# Altium footprint library 004-H-01 SD data logger.PcbLib: 27 footprints (part 1 of 2)
Each footprint in its own frame and in the unit in brackets; x right, y up, seen from the top. Pads: shape width x height; smd on the part's side, far side on the other; paste and mask are expansions set on the pad; w line width, h text height; cw(c..) or ccw(c..) is an arc to the next point about the centre after c.
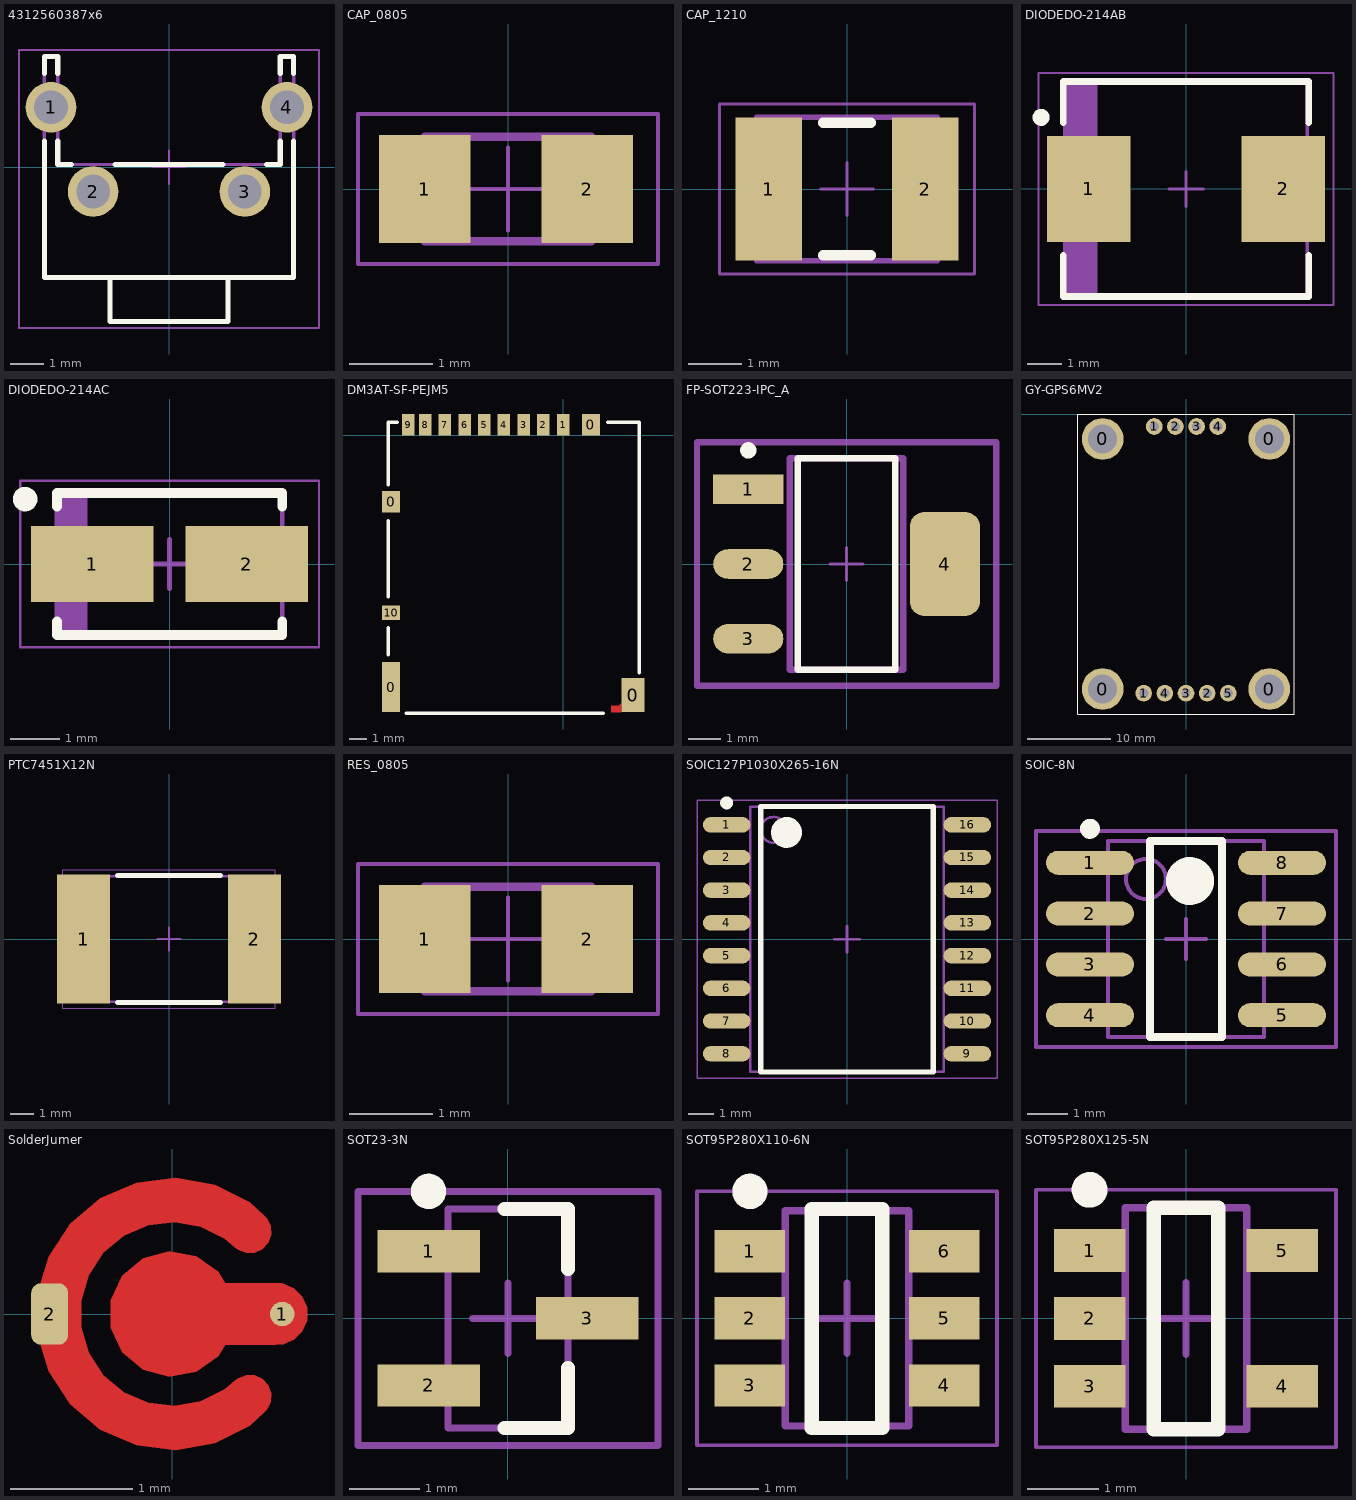
[diagram p0: the footprints below, top view; thin cyan lines are the x and y axes]

## 4312560387x6 [mm] "6x6mm right angle Tact Switch with ground terminal, THT version"
height 7.2
pads (4):
  round 1.5 hole 1: 1(-3.5,1.775) 2(-2.25,-0.725) 3(2.25,-0.725) 4(3.5,1.775)
Top Overlay:
  lines w0.15: -3.7,0.775 -3.7,-3.275 3.7,-3.275 3.7,0.775 ; -3.7,2.775 -3.7,3.275 -3.3,3.275 -3.3,2.775 ; -3.3,0.775 -3.3,0.075 -2.9,0.075 ; -1.75,-3.275 -1.75,-4.575 1.75,-4.575 1.75,-3.275 ; -1.6,0.075 1.6,0.075 ; 2.9,0.075 3.3,0.075 3.3,0.775 ; 3.3,2.775 3.3,3.275 3.7,3.275 3.7,2.775
Mechanical 13:
  lines w0.1: -1.75,-3.275 -1.75,-4.575 1.75,-4.575 1.75,-3.275 ; -3.7,-3.275 -3.7,3.275 -3.3,3.275 -3.3,0.075 3.3,0.075 3.3,3.275 3.7,3.275 3.7,-3.275 -3.7,-3.275
Mechanical 15:
  lines w0.05: -0.5,0 0.5,0 ; 0,-0.5 0,0.5 ; -4.45,-4.775 -4.45,3.475 4.45,3.475 4.45,-4.775 -4.45,-4.775
3D body "4312560387x6.stp": height 7.25, standoff -3.45, extent -4.2,-4.575 4.2,3.275

## CAP_0805 [mm] "Ceramic Capacitor, SMT, body size 2x1.25mm"
height 0.9
pads (2):
  rect 1.1x1.3 smd: 1(-1,0) 2(0.95,0)
Mechanical 13:
  lines w0.1: -1,-0.625 1,-0.625 1,0.625 -1,0.625 -1,-0.625
Mechanical 15:
  lines w0.05: -0.5,0 0.5,0 ; 0,-0.5 0,0.5 ; -1.8,-0.9 -1.8,0.9 1.8,0.9 1.8,-0.9 -1.8,-0.9
Fab Notes:
  text ".Designator" at -1.6,-0.5 h0.3
3D body "2x1.25x0.8x0.5.stp": height 0.8, standoff 0, extent -1,-0.625 1,0.625

## CAP_1210 [mm] "Ceramic Capacitor, SMT, body size 3.2x2.5mm"
height 1.8
pads (2):
  rect 1.25x2.7 smd: 1(-1.475,0) 2(1.475,0)
Top Overlay:
  lines w0.2: -0.45,-1.25 0.45,-1.25 ; -0.45,1.25 0.45,1.25
Mechanical 13:
  lines w0.1: -1.7,-1.35 -1.7,1.35 1.7,1.35 1.7,-1.35 -1.7,-1.35
Mechanical 15:
  lines w0.05: -0.5,0 0.5,0 ; 0,-0.5 0,0.5 ; -2.4,-1.6 -2.4,1.6 2.4,1.6 2.4,-1.6 -2.4,-1.6
Fab Notes:
  text ".Designator" at -1.6,-0.5 h0.3
3D body "3.2x2.5x1.6x0.75.stp": height 1.6, standoff 0, extent -1.6,-1.25 1.6,1.25

## DIODEDO-214AB [mm] "Molded Diode, 2-Leads, Body 6.86x5.91mm, IPC Medium Density"
height 2.5
pads (2):
  rect 2.45x3.1 smd: 1(-2.85,0) 2(2.85,0)
Top Overlay:
  circle w0.25: c-4.25,2.1 r0.125
  lines w0.2: -3.6,-1.95 -3.6,-3.15 3.6,-3.15 3.6,-1.95 ; -3.6,1.95 -3.6,3.15 3.6,3.15 3.6,1.95
Assembly Top:
  rectangle: -3.555,-3.11 -2.599,3.11
  lines w0.1: -3.555,-3.11 3.555,-3.11 3.555,3.11 -3.555,3.11 -3.555,-3.11
Courtyard Top:
  lines w0.05: -4.325,-3.4 4.325,-3.4 4.325,3.4 -4.325,3.4 -4.325,-3.4
  lines w0.1: -0.5,0 0.5,0 ; 0,-0.5 0,0.5
Fab Notes:
  text ".Designator" at -1.6,-0.5 h0.3
3D body "DIODEDO-214ABb.step": height 2.5, standoff 0, extent -3.775,-3.11 3.775,3.11

## DIODEDO-214AC [mm] "Molded Diode, 2-Leads, Body 4.30x2.63mm, IPC Medium Density"
height 2.62
pads (2):
  rect 2.5x1.55 smd: 1(-1.575,0) 2(1.575,0)
Top Overlay:
  circle w0.25: c-2.95,1.325 r0.125
  lines w0.2: -2.3,-1.175 -2.3,-1.45 2.3,-1.45 2.3,-1.175 ; -2.3,1.175 -2.3,1.45 2.3,1.45 2.3,1.175
Assembly Top:
  rectangle: -2.3,-1.45 -1.681,1.45
  lines w0.1: -2.3,-1.45 2.3,-1.45 2.3,1.45 -2.3,1.45 -2.3,-1.45
Courtyard Top:
  lines w0.05: -3.05,-1.7 3.05,-1.7 3.05,1.7 -3.05,1.7 -3.05,-1.7
  lines w0.1: -0.5,0 0.5,0 ; 0,-0.5 0,0.5
Fab Notes:
  text ".Designator" at -1.6,-0.5 h0.3
3D body "DIODEDO-214AC.step": height 2.62, standoff 0, extent -2.52,-1.45 2.52,1.45

## DM3AT-SF-PEJM5 [mm] "Memory Socket Micro SD card"
pads (14):
  rect 1x2.8 smd: 0(-9.6,-14.05)
  rect 1x1.2 smd: 0(-9.6,-3.7) 0(1.55,0.6)
  rect 1.3x1.9 smd: 0(3.9,-14.5)
  rect 0.7x1.2 smd: 1(0,0.6) 2(-1.1,0.6) 3(-2.2,0.6) 4(-3.3,0.6) 5(-4.4,0.6) 6(-5.5,0.6) 7(-6.6,0.6) 8(-7.7,0.6) 9(-8.65,0.6)
  rect 1x0.8 smd: 10(-9.6,-9.9)
Top Layer:
  region: 3.25,-15.45 2.7,-15.45 2.7,-15.1 3.1,-15.1 3.25,-14.95
Top Overlay:
  lines w0.2: -9.75,-12.25 -9.75,-10.75 ; -9.75,-9 -9.75,-4.75 ; -9.75,-2.75 -9.75,0.75 -9.25,0.75 ; -8.75,-15.5 2.25,-15.5 ; 2.5,0.75 4.25,0.75 4.25,-13.25
Top Paste:
  region: 3.25,-15.45 2.7,-15.45 2.7,-15.1 3.1,-15.1 3.25,-14.95
Top Solder:
  region: 3.15,-15.55 2.6,-15.55 2.6,-15 3,-15 3.15,-14.85
3D body "DM3AT-SF-PEJM5.stp": height 1.68, standoff 0, extent -9.675,-15.4 4.175,0.75

## FP-SOT223-IPC_A [mm]
pads (4):
  rect 2.16x0.912 smd paste+0 mask+0: 1(-3.026,2.3)
  rrect100% 2.16x0.912 smd paste+0 mask+0: 2(-3.026,0) 3(-3.026,-2.3)
  rrect42% 2.16x3.212 smd paste+0 mask+0: 4(3.026,0)
Top Overlay:
  circle w0.25: c-3.026,3.5 r0.125
  lines w0.2: -1.5,-3.25 -1.5,3.25 1.5,3.25 1.5,-3.25 -1.5,-3.25
Courtyard Bottom:
  lines w0.2: -4.606,-3.75 -4.606,3.75 4.606,3.75 4.606,-3.75 -4.606,-3.75
  text ".Designator" at 0,0.188 h1
Mechanical 13:
  lines w0.2: -1.75,-3.25 -1.75,3.25 1.75,3.25 1.75,-3.25 -1.75,-3.25
Mechanical 15:
  lines w0.2: -4.606,-3.75 -4.606,3.75 4.606,3.75 4.606,-3.75 -4.606,-3.75
Mechanical 16:
  lines w0.1: -0.5,0 0.5,0 ; 0,-0.5 0,0.5
3D body "Trans_Diodes_Inc_FZT849TA_eec.STEP": height 0.25, standoff 0, extent -4.606,-3.75 4.606,3.75

## GY-GPS6MV2 [mm] "GPS module"
pads (13):
  round 5 hole 3.5: 0(-10,-33) 0(-10,-3) 0(10,-33) 0(10,-3)
  round 2 hole 1.1: 1(-5.08,-33.5) 1(-3.81,-1.5) 2(-1.27,-1.5) 2(2.54,-33.5) 3(0,-33.5) 3(1.27,-1.5) 4(-2.54,-33.5) 4(3.81,-1.5) 5(5.08,-33.5)
Top Overlay:
  lines w0.127: -13,-36 13,-36 13,0 -13,0 -13,-36

## PTC7451X12N [mm] "Chip PTC, 2-Leads, Body 7.36x5.12mm, IPC Medium Density"
height 1.15
pads (2):
  rect 2.3x5.6 smd: 1(-3.7,0) 2(3.7,0)
Top Overlay:
  lines w0.2: -2.25,-2.75 2.25,-2.75 ; -2.25,2.75 2.25,2.75
Assembly Top:
  lines w0.1: -3.99,-2.72 3.99,-2.72 3.99,2.72 -3.99,2.72 -3.99,-2.72
Courtyard Top:
  lines w0.05: -4.6,-3 4.6,-3 4.6,3 -4.6,3 -4.6,-3
  lines w0.1: -0.5,0 0.5,0 ; 0,-0.5 0,0.5
Fab Notes:
  text ".Designator" at -1.6,-0.5 h0.3
3D body "RESC7451X12N.step": height 1.15, standoff 0, extent -3.99,-2.72 3.99,2.72

## RES_0805 [mm] "Thick Film Resistors, SMT, body size 2x1.25mm"
height 0.6
pads (2):
  rect 1.1x1.3 smd: 1(-1,0) 2(0.95,0)
Mechanical 13:
  lines w0.1: -1,-0.625 1,-0.625 1,0.625 -1,0.625 -1,-0.625
Mechanical 15:
  lines w0.05: -0.5,0 0.5,0 ; 0,-0.5 0,0.5 ; -1.8,-0.9 -1.8,0.9 1.8,0.9 1.8,-0.9 -1.8,-0.9
Fab Notes:
  text ".Designator" at -1.6,-0.5 h0.3
3D body "WRIS-KSKE_0805.stp": height 0.6, standoff 0, extent -1,-0.625 1,0.625

## SOIC127P1030X265-16N [mm] "SOIC, 16-Leads, Body 10.30x7.50mm, Pitch 1.27mm, IPC Medium Density"
height 2.65
pads (16):
  oval 1.85x0.6 smd: 1(-4.675,4.445) 2(-4.675,3.175) 3(-4.675,1.905) 4(-4.675,0.635) 5(-4.675,-0.635) 6(-4.675,-1.905) 7(-4.675,-3.175) 8(-4.675,-4.445) 9(4.675,-4.445) 10(4.675,-3.175) 11(4.675,-1.905) 12(4.675,-0.635) 13(4.675,0.635) 14(4.675,1.905) 15(4.675,3.175) 16(4.675,4.445)
Top Overlay:
  circle w0.6: c-2.35,4.15 r0.3
  circle w0.25: c-4.675,5.295 r0.125
  lines w0.2: -3.35,-5.15 3.35,-5.15 3.35,5.15 -3.35,5.15 -3.35,-5.15
Assembly Top:
  circle w0.1: c-2.85,4.25 r0.5
  lines w0.1: -3.75,-5.15 3.75,-5.15 3.75,5.15 -3.75,5.15 -3.75,-5.15
Courtyard Top:
  lines w0.05: -5.825,-5.4 5.825,-5.4 5.825,5.4 -5.825,5.4 -5.825,-5.4
  lines w0.1: -0.5,0 0.5,0 ; 0,-0.5 0,0.5
3D body "SOIC127P1030X265-16N.step": height 2.65, standoff 0, extent -5.15,-5.15 5.15,5.15

## SOIC-8N [mm] "SOIC, 8-Leads, Body 4.9x3.9mm (max), Pitch 1.27mm, IPC Medium Density"
height 1.75
pads (8):
  oval 2.2x0.6 smd: 1(-2.4,1.905) 2(-2.4,0.635) 3(-2.4,-0.635) 4(-2.4,-1.905) 5(2.4,-1.905) 6(2.4,-0.635) 7(2.4,0.635) 8(2.4,1.905)
Top Overlay:
  circle w0.6: c0.1,1.45 r0.3
  circle w0.25: c-2.4,2.755 r0.125
  lines w0.2: -0.9,-2.45 0.9,-2.45 0.9,2.45 -0.9,2.45 -0.9,-2.45
Mechanical 13:
  circle w0.1: c-1,1.5 r0.5
  lines w0.1: -1.95,-2.45 1.95,-2.45 1.95,2.45 -1.95,2.45 -1.95,-2.45
Mechanical 15:
  lines w0.1: -0.5,0 0.5,0 ; 0,-0.5 0,0.5 ; -3.75,-2.7 3.75,-2.7 3.75,2.7 -3.75,2.7 -3.75,-2.7
Fab Notes:
  text ".Designator" at -1.6,-0.5 h0.3
3D body: height 1.75, standoff 0.1, extent -1.95,-2.45 1.95,2.45
3D body "SOIC-8.step": height 1.75, standoff 0, extent -3,-2.45 3,2.45

## SolderJumer [mm] "Solder jumper open"
pads (2):
  round 0.2 smd paste+0 mask+0: 1(0.9,0)
  rrect50% 0.3x0.5 smd paste+0 mask+0: 2(-1,0)
Top Layer:
  region: 0.433,-0.25 0.378,-0.346 0.196,-0.473 -0.022,-0.512 -0.236,-0.454 -0.406,-0.312 -0.5,-0.111 -0.5,0.111 -0.406,0.312 -0.236,0.454 -0.022,0.512 0.196,0.473 0.378,0.346 0.433,0.25 0.852,0.25 0.902,0.25 0.994,0.212 1.064,0.142 1.102,0.05 1.102,-0.05 1.064,-0.142 0.994,-0.212 0.902,-0.25 0.852,-0.25
  region: 0.752,-0.803 0.635,-0.913 0.347,-1.056 0.03,-1.111 -0.29,-1.073 -0.585,-0.945 -0.831,-0.738 -1.008,-0.469 -1.1,-0.161 -1.1,0.161 -1.008,0.469 -0.831,0.738 -0.585,0.945 -0.29,1.073 0.03,1.111 0.347,1.056 0.635,0.913 0.752,0.803 0.777,0.779 0.806,0.716 0.809,0.646 0.784,0.581 0.737,0.53 0.674,0.501 0.604,0.499 0.539,0.523 0.513,0.547 0.429,0.615 0.235,0.712 0.021,0.75 -0.195,0.724 -0.394,0.638 -0.561,0.498 -0.68,0.317 -0.742,0.109 -0.742,-0.109 -0.68,-0.317 -0.561,-0.498 -0.394,-0.638 -0.195,-0.724 0.021,-0.75 0.235,-0.712 0.429,-0.615 0.513,-0.547 0.539,-0.523 0.604,-0.499 0.674,-0.501 0.737,-0.53 0.784,-0.581 0.809,-0.646 0.806,-0.716 0.777,-0.779
Top Solder:
  region: 0,-1.2 -0.118,-1.2 -0.35,-1.154 -0.568,-1.063 -0.765,-0.932 -0.932,-0.765 -1.063,-0.568 -1.154,-0.35 -1.2,-0.118 -1.2,0 -1.2,0.118 -1.154,0.35 -1.063,0.568 -0.932,0.765 -0.765,0.932 -0.568,1.063 -0.35,1.154 -0.118,1.2 0,1.2 0.118,1.2 0.35,1.154 0.568,1.063 0.765,0.932 0.932,0.765 1.063,0.568 1.154,0.35 1.2,0.118 1.2,0 1.2,-0.118 1.154,-0.35 1.063,-0.568 0.932,-0.765 0.765,-0.932 0.568,-1.063 0.35,-1.154 0.118,-1.2

## SOT23-3N [mm] "SOT23, 3-Leads, Body 3.1x3.0mm (max), Pitch 0.95mm, IPC Medium Density"
height 1.45
pads (3):
  rect 1.45x0.6 smd: 1(-1.125,0.95) 2(-1.125,-0.95) 3(1.125,0)
Top Overlay:
  circle w0.25: c-1.125,1.8 r0.125
  lines w0.2: -0.05,-1.55 0.85,-1.55 0.85,-0.7 ; -0.05,1.55 0.85,1.55 0.85,0.7
Mechanical 13:
  lines w0.1: -0.85,-1.55 -0.85,1.55 0.85,1.55 0.85,-1.55 -0.85,-1.55
Mechanical 15:
  lines w0.1: -0.5,0 0.5,0 ; 0,-0.5 0,0.5 ; -2.125,-1.8 -2.125,1.8 2.125,1.8 2.125,-1.8 -2.125,-1.8
Fab Notes:
  text ".Designator" at -1.6,-0.5 h0.3
3D body: height 1.45, standoff 0.1, extent -0.85,-1.55 0.85,1.55
3D body "CircuitWorks-SOT-23.step": height 1.05, standoff -0.05, extent -1.25,-1.5 1.25,1.5

## SOT95P280X110-6N [mm] "SOT23, 6-Leads, Body 2.90x2.80mm, Pitch 0.95mm, IPC Medium Density"
height 1.1
pads (6):
  rect 1x0.6 smd: 1(-1.375,0.95) 2(-1.375,0) 3(-1.375,-0.95) 4(1.375,-0.95) 5(1.375,0) 6(1.375,0.95)
Top Overlay:
  circle w0.25: c-1.375,1.8 r0.125
  lines w0.2: -0.5,-1.55 0.5,-1.55 0.5,1.55 -0.5,1.55 -0.5,-1.55
Assembly Top:
  lines w0.1: -0.875,-1.525 -0.875,1.525 0.875,1.525 0.875,-1.525 -0.875,-1.525
Courtyard Top:
  lines w0.05: -2.125,-1.8 -2.125,1.8 2.125,1.8 2.125,-1.8 -2.125,-1.8
  lines w0.1: -0.5,0 0.5,0 ; 0,-0.5 0,0.5
Fab Notes:
  text ".Designator" at -1.6,-0.5 h0.3
3D body: height 1.1, standoff 0.05, extent -0.875,-1.525 0.875,1.525

## SOT95P280X125-5N [mm] "SOT23, 5-Leads, Body 2.90x2.80mm, Pitch 0.95mm, IPC Medium Density"
height 1.25
pads (5):
  rect 1x0.6 smd: 1(-1.35,0.95) 2(-1.35,0) 3(-1.35,-0.95) 4(1.35,-0.95) 5(1.35,0.95)
Top Overlay:
  circle w0.25: c-1.35,1.8 r0.125
  lines w0.2: -0.45,-1.55 -0.45,1.55 0.45,1.55 0.45,-1.55 -0.45,-1.55
Assembly Top:
  lines w0.1: -0.85,-1.55 0.85,-1.55 0.85,1.55 -0.85,1.55 -0.85,-1.55
Courtyard Top:
  lines w0.05: -2.1,-1.8 2.1,-1.8 2.1,1.8 -2.1,1.8 -2.1,-1.8
  lines w0.1: -0.5,0 0.5,0 ; 0,-0.5 0,0.5
Fab Notes:
  text ".Designator" at -1.6,-0.5 h0.3
3D body: height 1.25, standoff 0.05, extent -0.85,-1.55 0.85,1.55
3D body "User Library-SOT23-5-2.step": height 1.45, standoff 0, extent -1.4,-1.45 1.4,1.45